# EAGLE library part SI7850DP-T1-GE3 (library SI7850DP-T1-GE3)
VISHAY - SI7850DP-T1-GE3. - N CHANNEL MOSFET, 60V, 10.3A, SOIC, FULL Source: Datasheet <https://componentsearchengine.com/Datasheets/2/SI7850DP-T1-GE3.pdf>
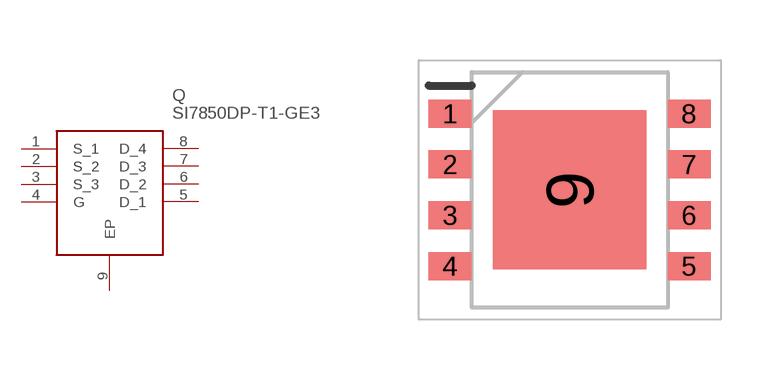
[diagram p0: symbol with the pads of SOIC127P615X112-9N; footprint SOIC127P615X112-9N]

Designator prefix Q

## SI7850DP-T1-GE3 (Description: VISHAY - SI7850DP-T1-GE3. - N CHANNEL MOSFET, 60V, 10.3A, SOIC, FULL; Height: 1.12mm; Manufacturer_Name: Vishay; Manufacturer_Part_Number: SI7850DP-T1-GE3; Mouser_Part_Number: 781-SI7850DP-GE3; Mouser_Price-Stock: https://www.mouser.com/Search/Refine.aspx?Keyword=781-SI7850DP-GE3)  [SOIC127P615X112-9N]
1  S_1
2  S_2
3  S_3
4  G
5  D_1
6  D_2
7  D_3
8  D_4
9  EP

## Footprint SOIC127P615X112-9N (pad centres in mm)
SI7850DP-T1-GE3
smd 1.075 x 0.7: 1 -2.988,1.905; 2 -2.988,0.635; 3 -2.988,-0.635; 4 -2.988,-1.905; 5 2.988,-1.905; 6 2.988,-0.635; 7 2.988,0.635; 8 2.988,1.905
smd 3.84 x 3.98: 9 0,0